# EAGLE library part TC7W53F (library Switch_P4)
2-Channel Multiplexer/Demultiplexer
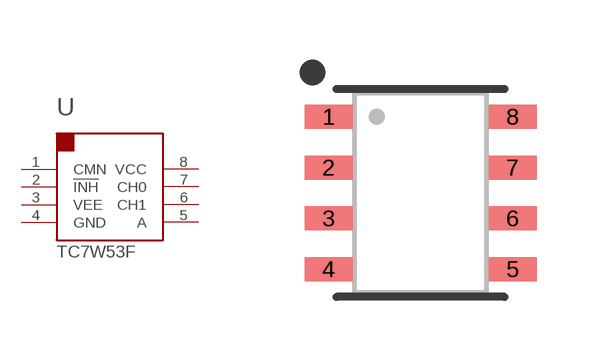
[diagram p3: symbol with the pads of SOP8; footprint SOP8]

Designator prefix -

## TC7W53F  [SOP8]
1  CMN  pas
2  !INH  pas
3  VEE  pwr
4  GND  pwr
5  A  pas
6  CH1  pas
7  CH0  pas
8  VCC  pas

## Footprint SOP8 (pad centres in mm)
SO8N - 8-Lead Plastic Small Outline 150 mils body
smd 1.2 x 0.6: 1 -2.3,1.905; 2 -2.3,0.635; 3 -2.3,-0.635; 4 -2.3,-1.905; 5 2.3,-1.905; 6 2.3,-0.635; 7 2.3,0.635; 8 2.3,1.905